# Altium schematic symbol library FXOS8700CQR1.SchLib: 1 symbol
Pins are listed as number, name and electrical type; pins without a type are passive.

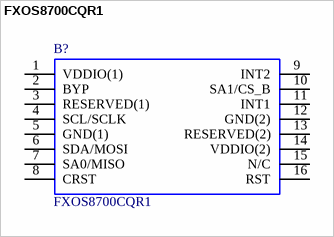
[diagram p0: symbol FXOS8700CQR1]

## FXOS8700CQR1
designator B?
6-axis sensor with integrated linear accelerometer and magnetometer; Manufacturer_Name: Nexperia; Geometry.Height: 1mm; Supplier_Name: RS; RS Part Number: *; Manufacturer_Part_Number: FXOS8700CQR1; Allied_Number: *; Other Part Number: *; Datasheet Link: http://cache.nxp.com/files/sensors/doc/data_sheet/FXOS8700CQ.pdf; 3D Package: *
footprint PQFN50P300X300X100-16N
pins: 1 VDDIO(1) (power), 2 BYP, 3 RESERVED(1), 4 SCL/SCLK, 5 GND(1), 6 SDA/MOSI, 7 SA0/MISO, 8 CRST, 9 INT2, 10 SA1/CS_B, 11 INT1, 12 GND(2), 13 RESERVED(2), 14 VDDIO(2) (power), 15 N/C, 16 RST